# EAGLE library part RX-XXX-ES (library LINX)
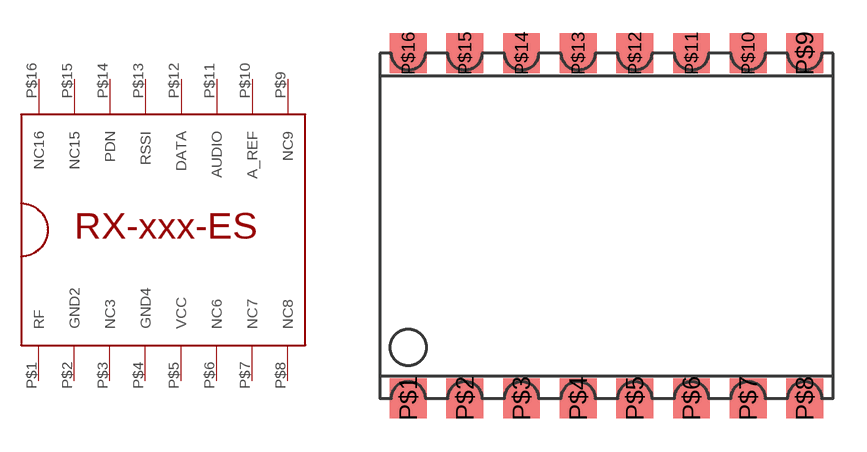
[diagram p1: symbol with the pads of RX-XXX-ES; footprint RX-XXX-ES]

Designator prefix -

## RX-XXX-ES  [RX-XXX-ES]
P$1  RF
P$2  GND2  pwr
P$3  NC3  nc
P$4  GND4  pwr
P$5  VCC  pwr
P$6  NC6  nc
P$7  NC7  nc
P$8  NC8  nc
P$9  NC9  nc
P$10  A_REF
P$11  AUDIO
P$12  DATA
P$13  RSSI
P$14  PDN
P$15  NC15  nc
P$16  NC16  nc

## Footprint RX-XXX-ES (pad centres in mm)
smd 1.651 x 1.778: P$1 0,0; P$2 2.54,0; P$3 5.08,0; P$4 7.62,0; P$5 10.16,0; P$6 12.7,0; P$7 15.24,0; P$8 17.78,0; P$9 17.78,15.494; P$10 15.24,15.494; P$11 12.7,15.494; P$12 10.16,15.494; P$13 7.62,15.494; P$14 5.08,15.494; P$15 2.54,15.494; P$16 0,15.494